# Altium integrated library CRCW08054M12FKEA.IntLib: 2 symbols
Pins are listed as number, name and electrical type; pins without a type are passive.

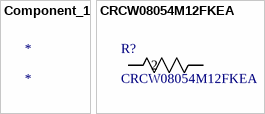
[diagram p0: symbols Component_1 to CRCW08054M12FKEA]

## Component_1
designator *

## CRCW08054M12FKEA
designator R?
No Description Available; Mfr_Name: Vishay; Copyright: Copyright (C) 2022 Ultra Librarian. All rights reserved.; Manufacturer_Part_Number: CRCW08054M12FKEA; RefDes: RefDes; Type: DEV
footprint RC0805N_VIS
pins: 1, 2